# Altium integrated library Linear Technology Power Management Switching Regulator LTC1174-LTC3901.IntLib: 2647 symbols (part 129 of 364)
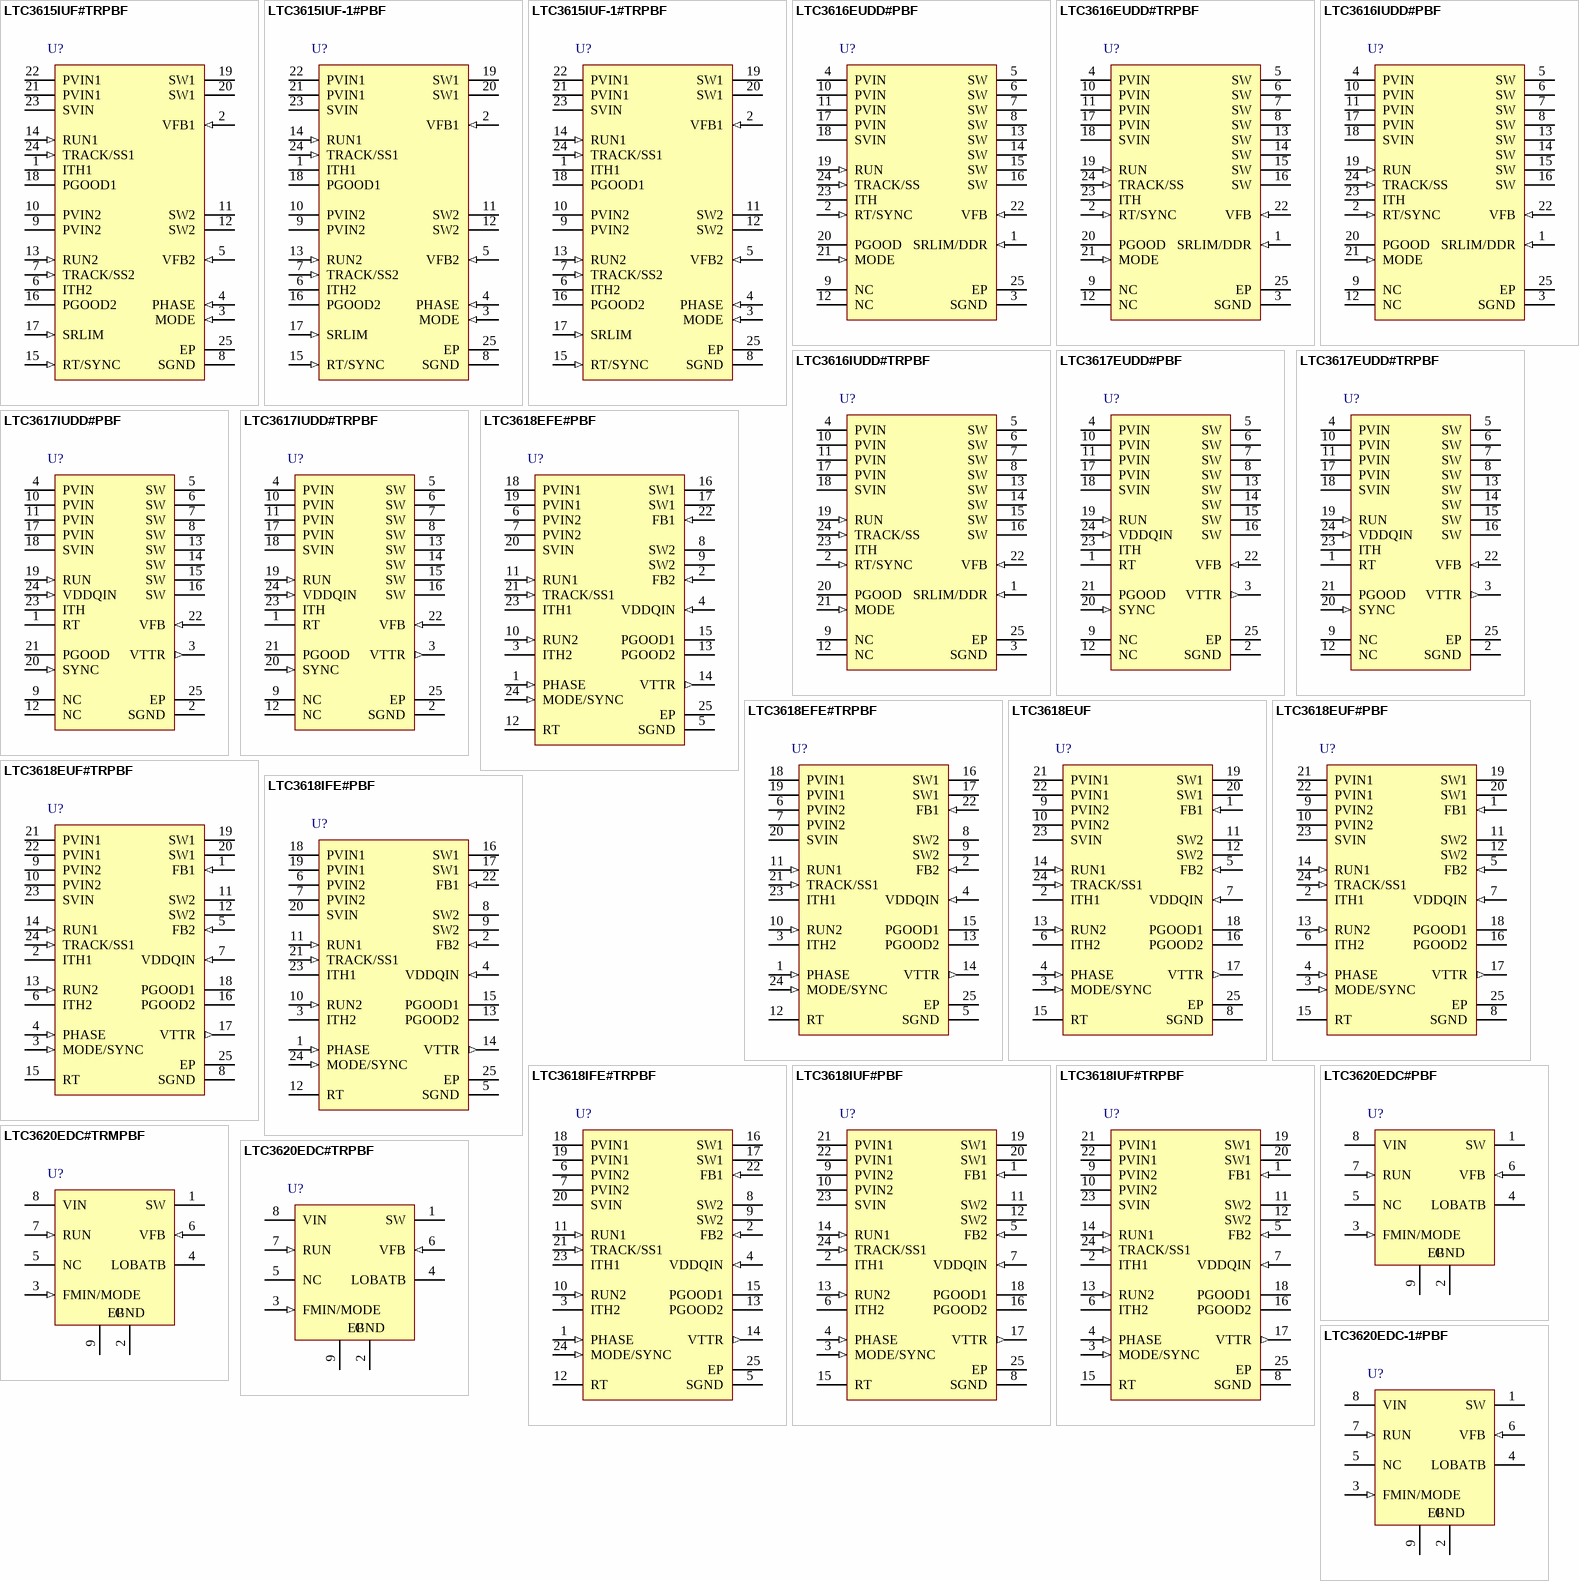
[diagram p181: symbols LTC3615IUF#TRPBF to LTC3620EDC-1#PBF]

## LTC3618EUF#PBF
designator U?
Dual 4 MHz, +/-3 A Synchronous Buck Converter for DDR Termination, 24-pin QFN (UF-24), -40 to 125 degC, Pb-Free; Manufacturer: Linear Technology; PartNumber: LTC3618EUF#PBF; Frequency Adjust Range: Up - 4MHz; Number of Outputs: 3; DatasheetVersion: Rev. B; PackageVersion: Rev. B, 02/2012; PackageReference: UF24; PackageDescription: 24-Pin Plastic QFN, Body 4 x 4 mm, Pitch 0.5 mm; Supplier 1: Digi-Key; Supplier Part Number 1: LTC3618EUF#PBF-ND; Supplier 2: Newark; Supplier Part Number 2: 59T9340; RoHS: TRUE; Mounting Technology: Surface Mount; Code_JEDEC: MO-220; ComponentLink1Description: Manufacturer URL; ComponentLink1URL: http://www.linear.com/; ComponentLink2Description: Datasheet; ComponentLink2URL: http://cds.linear.com/docs/en/datasheet/3618fb.pdf; ComponentLink3Description: Package Specification; ComponentLink3URL: http://cds.linear.com/docs/en/packaging/%28UF24%29%20QFN%2005-08-1697%20Rev%20B.pdf
footprint LT-UF-24_N (QFN, 24-Leads, Body 4.1x4.1mm, Pitch 0.5mm, Thermal Pad 2.45x2.45mm, IPC Medium Density)
footprint LT-UF-24_L (QFN, 24-Leads, Body 4.1x4.1mm, Pitch 0.5mm, Thermal Pad 2.45x2.45mm, IPC High Density)
footprint LT-UF-24_M (QFN, 24-Leads, Body 4.1x4.1mm, Pitch 0.5mm, Thermal Pad 2.45x2.45mm, IPC Low Density)
pins: 1 FB1 (in) "Voltage Feedback Input Pin for VDDQ. Receives the feedback voltage for VDDQ from the external resistive divider across the output.", 2 ITH1 "Error Amplifier Compensation. Connection for external compensation from ITH to SGND. The current comparator’s threshold increases with this control voltage. Tying this pin to SVIN enables internal compensation.", 3 MODE/SYNC (in) "Mode Selection. 1. Tying the MODE pin to SVIN or SGND enables pulseskipping mode or forced continuous mode respectively for VDDQ only. The default operation mode for VTT is forced continuous mode. The input to the MODE/SYNC (See Datasheet)", 4 PHASE (in) "Phase Shift Selection. If pin is tied to SGND, the phase between SW1 and SW2 will be 0degrees. Tying PHASE to SVIN will select 180degrees phase shift. With the PHASE pin tied to half of the SVIN voltage, 90degrees phase (See Datasheet)", 5 FB2 (in) "Voltage Feedback Input Pin for VTT. See VFB1.", 6 ITH2 "Error Amplifier Compensation of VTT. See ITH1.", 7 VDDQIN (in) "External Reference Input. An internal resistor divider to the error amplifier sets the output voltage of VTT. VFB2 will regulate to VDDQIN ?0.5.", 8 SGND (power) "Signal Ground. All small-signal and compensation components should connect to this ground pin which, in turn, should be connected to PGND at one point.", 9 PVIN2 (power) "VTT Power Supply Input. See PVIN1.", 10 PVIN2 (power) "VTT Power Supply Input. See PVIN1.", 11 SW2 (power) "VTT Switch Node. See SW1.", 12 SW2 (power) "VTT Switch Node. See SW1.", 13 RUN2 (in) "Enable Pin for VTT. See RUN1.", 14 RUN1 (in) "Enable Pin for VDDQ. Forcing RUN1 above the input threshold voltage enables the output SW1 of VDDQ. Forcing both RUNx pins to ground shuts down the LTC3618. In shutdown, all functions are disabled and the LTC3618 draws <1uA (See Datasheet)", 15 RT "Oscillator Frequency. This pin provides two modes of setting the switching frequency. 1. Connecting a resistor from RT to ground will set the switching frequency based on the resistor value. 2. Tying this pin to SVIN enables (See Datasheet)", 16 PGOOD2 (oc) "Power Good Output for VTT. See PGOOD1.", 17 VTTR (out) "Voltage Buffer Output. This pin is the output of an internal voltage buffer whose voltage is equal to VDDQIN ?0.5. Output current capability is +/-10mA. Do not exceed 0.1uF capacitance on this pin. This output i(See Datasheet)", 18 PGOOD1 (oc) "Power Good Output Pin for VDDQ. The open-drain output will be pulled down to ground if the FB1 voltage of the channel is not within the power good voltage window. The PGOOD1 will also be pulled down if the channel is not (See Datasheet)", 19 SW1 (power) "VDDQ Switch Node. Connection to the external inductor. This pin connects to the drains of the internal synchronous power MOSFET switches.", 20 SW1 (power) "VDDQ Switch Node. Connection to the external inductor. This pin connects to the drains of the internal synchronous power MOSFET switches.", 21 PVIN1 (power) "VDDQ Power Supply Inputs. These pins connect to the source of the internal power P-channel MOSFET of VDDQ. PVIN1 and PVIN2 are independent of each other. They may connect to equal or lower supplies than SVIN.", 22 PVIN1 (power) "VDDQ Power Supply Inputs. These pins connect to the source of the internal power P-channel MOSFET of VDDQ. PVIN1 and PVIN2 are independent of each other. They may connect to equal or lower supplies than SVIN.", 23 SVIN (power) "Signal Input Supply. This pin powers the internal control circuitry and is monitored by the undervoltage lockout comparator.", 24 TRACK/SS1 (in) "Internal, External Soft-Start, External Reference Input for VDDQ. The type of start-up behavior for VDDQ is programmable with the TRACK/SS1 pin: 1. Internal soft-start with fixed timing can be programmed by tying TRACK/SS1 (See Datasheet)", 25 EP (power) "Power Ground. The exposed pad connects to the sources of the power N-channel MOSFETs. The PGND pin is common for both channels. The exposed pad must be soldered to the PCB for electrical connection and rated thermal (See Datasheet)"

## LTC3618EUF#TRPBF
designator U?
Dual 4 MHz, +/-3 A Synchronous Buck Converter for DDR Termination, 24-pin QFN (UF-24), -40 to 125 degC, Pb-Free, Tape and Reel; Manufacturer: Linear Technology; PartNumber: LTC3618EUF#TRPBF; Frequency Adjust Range: Up - 4MHz; Number of Outputs: 3; DatasheetVersion: Rev. B; PackageVersion: Rev. B, 02/2012; PackageReference: UF24; PackageDescription: 24-Pin Plastic QFN, Body 4 x 4 mm, Pitch 0.5 mm; Supplier 1: Digi-Key; Supplier Part Number 1: LTC3618EUF#TRPBF-ND; Supplier 2: Newark; Supplier Part Number 2: 59T9341; Packing: Tape and Reel; RoHS: TRUE; Mounting Technology: Surface Mount; Code_JEDEC: MO-220; ComponentLink1Description: Manufacturer URL; ComponentLink1URL: http://www.linear.com/; ComponentLink2Description: Datasheet; ComponentLink2URL: http://cds.linear.com/docs/en/datasheet/3618fb.pdf; ComponentLink3Description: Package Specification; ComponentLink3URL: http://cds.linear.com/docs/en/packaging/%28UF24%29%20QFN%2005-08-1697%20Rev%20B.pdf
footprint LT-UF-24_N (QFN, 24-Leads, Body 4.1x4.1mm, Pitch 0.5mm, Thermal Pad 2.45x2.45mm, IPC Medium Density)
footprint LT-UF-24_L (QFN, 24-Leads, Body 4.1x4.1mm, Pitch 0.5mm, Thermal Pad 2.45x2.45mm, IPC High Density)
footprint LT-UF-24_M (QFN, 24-Leads, Body 4.1x4.1mm, Pitch 0.5mm, Thermal Pad 2.45x2.45mm, IPC Low Density)
pins: 1 FB1 (in) "Voltage Feedback Input Pin for VDDQ. Receives the feedback voltage for VDDQ from the external resistive divider across the output.", 2 ITH1 "Error Amplifier Compensation. Connection for external compensation from ITH to SGND. The current comparator’s threshold increases with this control voltage. Tying this pin to SVIN enables internal compensation.", 3 MODE/SYNC (in) "Mode Selection. 1. Tying the MODE pin to SVIN or SGND enables pulseskipping mode or forced continuous mode respectively for VDDQ only. The default operation mode for VTT is forced continuous mode. The input to the MODE/SYNC (See Datasheet)", 4 PHASE (in) "Phase Shift Selection. If pin is tied to SGND, the phase between SW1 and SW2 will be 0degrees. Tying PHASE to SVIN will select 180degrees phase shift. With the PHASE pin tied to half of the SVIN voltage, 90degrees phase (See Datasheet)", 5 FB2 (in) "Voltage Feedback Input Pin for VTT. See VFB1.", 6 ITH2 "Error Amplifier Compensation of VTT. See ITH1.", 7 VDDQIN (in) "External Reference Input. An internal resistor divider to the error amplifier sets the output voltage of VTT. VFB2 will regulate to VDDQIN ?0.5.", 8 SGND (power) "Signal Ground. All small-signal and compensation components should connect to this ground pin which, in turn, should be connected to PGND at one point.", 9 PVIN2 (power) "VTT Power Supply Input. See PVIN1.", 10 PVIN2 (power) "VTT Power Supply Input. See PVIN1.", 11 SW2 (power) "VTT Switch Node. See SW1.", 12 SW2 (power) "VTT Switch Node. See SW1.", 13 RUN2 (in) "Enable Pin for VTT. See RUN1.", 14 RUN1 (in) "Enable Pin for VDDQ. Forcing RUN1 above the input threshold voltage enables the output SW1 of VDDQ. Forcing both RUNx pins to ground shuts down the LTC3618. In shutdown, all functions are disabled and the LTC3618 draws <1uA (See Datasheet)", 15 RT "Oscillator Frequency. This pin provides two modes of setting the switching frequency. 1. Connecting a resistor from RT to ground will set the switching frequency based on the resistor value. 2. Tying this pin to SVIN enables (See Datasheet)", 16 PGOOD2 (oc) "Power Good Output for VTT. See PGOOD1.", 17 VTTR (out) "Voltage Buffer Output. This pin is the output of an internal voltage buffer whose voltage is equal to VDDQIN ?0.5. Output current capability is +/-10mA. Do not exceed 0.1uF capacitance on this pin. This output i(See Datasheet)", 18 PGOOD1 (oc) "Power Good Output Pin for VDDQ. The open-drain output will be pulled down to ground if the FB1 voltage of the channel is not within the power good voltage window. The PGOOD1 will also be pulled down if the channel is not (See Datasheet)", 19 SW1 (power) "VDDQ Switch Node. Connection to the external inductor. This pin connects to the drains of the internal synchronous power MOSFET switches.", 20 SW1 (power) "VDDQ Switch Node. Connection to the external inductor. This pin connects to the drains of the internal synchronous power MOSFET switches.", 21 PVIN1 (power) "VDDQ Power Supply Inputs. These pins connect to the source of the internal power P-channel MOSFET of VDDQ. PVIN1 and PVIN2 are independent of each other. They may connect to equal or lower supplies than SVIN.", 22 PVIN1 (power) "VDDQ Power Supply Inputs. These pins connect to the source of the internal power P-channel MOSFET of VDDQ. PVIN1 and PVIN2 are independent of each other. They may connect to equal or lower supplies than SVIN.", 23 SVIN (power) "Signal Input Supply. This pin powers the internal control circuitry and is monitored by the undervoltage lockout comparator.", 24 TRACK/SS1 (in) "Internal, External Soft-Start, External Reference Input for VDDQ. The type of start-up behavior for VDDQ is programmable with the TRACK/SS1 pin: 1. Internal soft-start with fixed timing can be programmed by tying TRACK/SS1 (See Datasheet)", 25 EP (power) "Power Ground. The exposed pad connects to the sources of the power N-channel MOSFETs. The PGND pin is common for both channels. The exposed pad must be soldered to the PCB for electrical connection and rated thermal (See Datasheet)"

## LTC3618IFE#PBF
designator U?
Dual 4 MHz, +/-3 A Synchronous Buck Converter for DDR Termination, 24-pin SOP (FE-24-EPV-AA), -40 to 125 degC, Pb-Free; Manufacturer: Linear Technology; PartNumber: LTC3618IFE#PBF; Frequency Adjust Range: Up - 4MHz; Number of Outputs: 3; DatasheetVersion: Rev. B; PackageVersion: Rev. B, 09/2010; PackageReference: FE-24; PackageDescription: 24-Pin Plastic TSSOP, Body 7.8 x 4.4 mm, Pitch 0.65 mm; Supplier 1: Digi-Key; Supplier Part Number 1: LTC3618IFE#PBF-ND; Supplier 2: Newark; Supplier Part Number 2: 59T9342; RoHS: TRUE; Mounting Technology: Surface Mount; ComponentLink1Description: Manufacturer URL; ComponentLink1URL: http://www.linear.com/; ComponentLink2Description: Datasheet; ComponentLink2URL: http://cds.linear.com/docs/en/datasheet/3618fb.pdf; ComponentLink3Description: Package Specification; ComponentLink3URL: http://cds.linear.com/docs/en/packaging/TSSOP_24_05-08-1771.pdf
footprint LT-FE-24-EPV-AA_N (SOP, 24-Leads, Body 7.9x4.5mm, Pitch 0.65mm, Thermal Pad 2.74x3.25mm, IPC Medium Density)
footprint LT-FE-24-EPV-AA_L (SOP, 24-Leads, Body 7.9x4.5mm, Pitch 0.65mm, Thermal Pad 2.74x3.25mm, IPC High Density)
footprint LT-FE-24-EPV-AA_M (SOP, 24-Leads, Body 7.9x4.5mm, Pitch 0.65mm, Thermal Pad 2.74x3.25mm, IPC Low Density)
pins: 1 PHASE (in) "Phase Shift Selection. If pin is tied to SGND, the phase between SW1 and SW2 will be 0degrees. Tying PHASE to SVIN will select 180degrees phase shift. With the PHASE pin tied to half of the SVIN voltage, 90degrees phase (See Datasheet)", 2 FB2 (in) "Voltage Feedback Input Pin for VTT. See VFB1.", 3 ITH2 "Error Amplifier Compensation of VTT. See ITH1.", 4 VDDQIN (in) "External Reference Input. An internal resistor divider to the error amplifier sets the output voltage of VTT. VFB2 will regulate to VDDQIN ?0.5.", 5 SGND (power) "Signal Ground. All small-signal and compensation components should connect to this ground pin which, in turn, should be connected to PGND at one point.", 6 PVIN2 (power) "VTT Power Supply Input. See PVIN1.", 7 PVIN2 (power) "VTT Power Supply Input. See PVIN1.", 8 SW2 (power) "VTT Switch Node. See SW1.", 9 SW2 (power) "VTT Switch Node. See SW1.", 10 RUN2 (in) "Enable Pin for VTT. See RUN1.", 11 RUN1 (in) "Enable Pin for VDDQ. Forcing RUN1 above the input threshold voltage enables the output SW1 of VDDQ. Forcing both RUNx pins to ground shuts down the LTC3618. In shutdown, all functions are disabled and the LTC3618 draws <1uA (See Datasheet)", 12 RT "Oscillator Frequency. This pin provides two modes of setting the switching frequency. 1. Connecting a resistor from RT to ground will set the switching frequency based on the resistor value. 2. Tying this pin to SVIN enables (See Datasheet)", 13 PGOOD2 (oc) "Power Good Output for VTT. See PGOOD1.", 14 VTTR (out) "Voltage Buffer Output. This pin is the output of an internal voltage buffer whose voltage is equal to VDDQIN ?0.5. Output current capability is +/-10mA. Do not exceed 0.1uF capacitance on this pin. This output i(See Datasheet)", 15 PGOOD1 (oc) "Power Good Output Pin for VDDQ. The open-drain output will be pulled down to ground if the FB1 voltage of the channel is not within the power good voltage window. The PGOOD1 will also be pulled down if the channel is not (See Datasheet)", 16 SW1 (power) "VDDQ Switch Node. Connection to the external inductor. This pin connects to the drains of the internal synchronous power MOSFET switches.", 17 SW1 (power) "VDDQ Switch Node. Connection to the external inductor. This pin connects to the drains of the internal synchronous power MOSFET switches.", 18 PVIN1 (power) "VDDQ Power Supply Inputs. These pins connect to the source of the internal power P-channel MOSFET of VDDQ. PVIN1 and PVIN2 are independent of each other. They may connect to equal or lower supplies than SVIN.", 19 PVIN1 (power) "VDDQ Power Supply Inputs. These pins connect to the source of the internal power P-channel MOSFET of VDDQ. PVIN1 and PVIN2 are independent of each other. They may connect to equal or lower supplies than SVIN.", 20 SVIN (power) "Signal Input Supply. This pin powers the internal control circuitry and is monitored by the undervoltage lockout comparator.", 21 TRACK/SS1 (in) "Internal, External Soft-Start, External Reference Input for VDDQ. The type of start-up behavior for VDDQ is programmable with the TRACK/SS1 pin: 1. Internal soft-start with fixed timing can be programmed by tying TRACK/SS1 (See Datasheet)", 22 FB1 (in) "Voltage Feedback Input Pin for VDDQ. Receives the feedback voltage for VDDQ from the external resistive divider across the output.", 23 ITH1 "Error Amplifier Compensation. Connection for external compensation from ITH to SGND. The current comparator’s threshold increases with this control voltage. Tying this pin to SVIN enables internal compensation.", 24 MODE/SYNC (in) "Mode Selection. 1. Tying the MODE pin to SVIN or SGND enables pulseskipping mode or forced continuous mode respectively for VDDQ only. The default operation mode for VTT is forced continuous mode. The input to the MODE/SYNC (See Datasheet)", 25 EP (power) "Power Ground. The exposed pad connects to the sources of the power N-channel MOSFETs. The PGND pin is common for both channels. The exposed pad must be soldered to the PCB for electrical connection and rated thermal (See Datasheet)"

## LTC3618IFE#TRPBF
designator U?
Dual 4 MHz, +/-3 A Synchronous Buck Converter for DDR Termination, 24-pin SOP (FE-24-EPV-AA), -40 to 125 degC, Pb-Free, Tape and Reel; Manufacturer: Linear Technology; PartNumber: LTC3618IFE#TRPBF; Frequency Adjust Range: Up - 4MHz; Number of Outputs: 3; DatasheetVersion: Rev. B; PackageVersion: Rev. B, 09/2010; PackageReference: FE-24; PackageDescription: 24-Pin Plastic TSSOP, Body 7.8 x 4.4 mm, Pitch 0.65 mm; Supplier 1: Digi-Key; Supplier Part Number 1: LTC3618IFE#TRPBF-ND; Packing: Tape and Reel; RoHS: TRUE; Mounting Technology: Surface Mount; ComponentLink1Description: Manufacturer URL; ComponentLink1URL: http://www.linear.com/; ComponentLink2Description: Datasheet; ComponentLink2URL: http://cds.linear.com/docs/en/datasheet/3618fb.pdf; ComponentLink3Description: Package Specification; ComponentLink3URL: http://cds.linear.com/docs/en/packaging/TSSOP_24_05-08-1771.pdf
footprint LT-FE-24-EPV-AA_N (SOP, 24-Leads, Body 7.9x4.5mm, Pitch 0.65mm, Thermal Pad 2.74x3.25mm, IPC Medium Density)
footprint LT-FE-24-EPV-AA_L (SOP, 24-Leads, Body 7.9x4.5mm, Pitch 0.65mm, Thermal Pad 2.74x3.25mm, IPC High Density)
footprint LT-FE-24-EPV-AA_M (SOP, 24-Leads, Body 7.9x4.5mm, Pitch 0.65mm, Thermal Pad 2.74x3.25mm, IPC Low Density)
pins: 1 PHASE (in) "Phase Shift Selection. If pin is tied to SGND, the phase between SW1 and SW2 will be 0degrees. Tying PHASE to SVIN will select 180degrees phase shift. With the PHASE pin tied to half of the SVIN voltage, 90degrees phase (See Datasheet)", 2 FB2 (in) "Voltage Feedback Input Pin for VTT. See VFB1.", 3 ITH2 "Error Amplifier Compensation of VTT. See ITH1.", 4 VDDQIN (in) "External Reference Input. An internal resistor divider to the error amplifier sets the output voltage of VTT. VFB2 will regulate to VDDQIN ?0.5.", 5 SGND (power) "Signal Ground. All small-signal and compensation components should connect to this ground pin which, in turn, should be connected to PGND at one point.", 6 PVIN2 (power) "VTT Power Supply Input. See PVIN1.", 7 PVIN2 (power) "VTT Power Supply Input. See PVIN1.", 8 SW2 (power) "VTT Switch Node. See SW1.", 9 SW2 (power) "VTT Switch Node. See SW1.", 10 RUN2 (in) "Enable Pin for VTT. See RUN1.", 11 RUN1 (in) "Enable Pin for VDDQ. Forcing RUN1 above the input threshold voltage enables the output SW1 of VDDQ. Forcing both RUNx pins to ground shuts down the LTC3618. In shutdown, all functions are disabled and the LTC3618 draws <1uA (See Datasheet)", 12 RT "Oscillator Frequency. This pin provides two modes of setting the switching frequency. 1. Connecting a resistor from RT to ground will set the switching frequency based on the resistor value. 2. Tying this pin to SVIN enables (See Datasheet)", 13 PGOOD2 (oc) "Power Good Output for VTT. See PGOOD1.", 14 VTTR (out) "Voltage Buffer Output. This pin is the output of an internal voltage buffer whose voltage is equal to VDDQIN ?0.5. Output current capability is +/-10mA. Do not exceed 0.1uF capacitance on this pin. This output i(See Datasheet)", 15 PGOOD1 (oc) "Power Good Output Pin for VDDQ. The open-drain output will be pulled down to ground if the FB1 voltage of the channel is not within the power good voltage window. The PGOOD1 will also be pulled down if the channel is not (See Datasheet)", 16 SW1 (power) "VDDQ Switch Node. Connection to the external inductor. This pin connects to the drains of the internal synchronous power MOSFET switches.", 17 SW1 (power) "VDDQ Switch Node. Connection to the external inductor. This pin connects to the drains of the internal synchronous power MOSFET switches.", 18 PVIN1 (power) "VDDQ Power Supply Inputs. These pins connect to the source of the internal power P-channel MOSFET of VDDQ. PVIN1 and PVIN2 are independent of each other. They may connect to equal or lower supplies than SVIN.", 19 PVIN1 (power) "VDDQ Power Supply Inputs. These pins connect to the source of the internal power P-channel MOSFET of VDDQ. PVIN1 and PVIN2 are independent of each other. They may connect to equal or lower supplies than SVIN.", 20 SVIN (power) "Signal Input Supply. This pin powers the internal control circuitry and is monitored by the undervoltage lockout comparator.", 21 TRACK/SS1 (in) "Internal, External Soft-Start, External Reference Input for VDDQ. The type of start-up behavior for VDDQ is programmable with the TRACK/SS1 pin: 1. Internal soft-start with fixed timing can be programmed by tying TRACK/SS1 (See Datasheet)", 22 FB1 (in) "Voltage Feedback Input Pin for VDDQ. Receives the feedback voltage for VDDQ from the external resistive divider across the output.", 23 ITH1 "Error Amplifier Compensation. Connection for external compensation from ITH to SGND. The current comparator’s threshold increases with this control voltage. Tying this pin to SVIN enables internal compensation.", 24 MODE/SYNC (in) "Mode Selection. 1. Tying the MODE pin to SVIN or SGND enables pulseskipping mode or forced continuous mode respectively for VDDQ only. The default operation mode for VTT is forced continuous mode. The input to the MODE/SYNC (See Datasheet)", 25 EP (power) "Power Ground. The exposed pad connects to the sources of the power N-channel MOSFETs. The PGND pin is common for both channels. The exposed pad must be soldered to the PCB for electrical connection and rated thermal (See Datasheet)"

## LTC3618IUF#PBF
designator U?
Dual 4 MHz, +/-3 A Synchronous Buck Converter for DDR Termination, 24-pin QFN (UF-24), -40 to 125 degC, Pb-Free; Manufacturer: Linear Technology; PartNumber: LTC3618IUF#PBF; Frequency Adjust Range: Up - 4MHz; Number of Outputs: 3; DatasheetVersion: Rev. B; PackageVersion: Rev. B, 02/2012; PackageReference: UF24; PackageDescription: 24-Pin Plastic QFN, Body 4 x 4 mm, Pitch 0.5 mm; Supplier 1: Digi-Key; Supplier Part Number 1: LTC3618IUF#PBF-ND; Supplier 2: Newark; Supplier Part Number 2: 59T9344; RoHS: TRUE; Mounting Technology: Surface Mount; Code_JEDEC: MO-220; ComponentLink1Description: Manufacturer URL; ComponentLink1URL: http://www.linear.com/; ComponentLink2Description: Datasheet; ComponentLink2URL: http://cds.linear.com/docs/en/datasheet/3618fb.pdf; ComponentLink3Description: Package Specification; ComponentLink3URL: http://cds.linear.com/docs/en/packaging/%28UF24%29%20QFN%2005-08-1697%20Rev%20B.pdf
footprint LT-UF-24_N (QFN, 24-Leads, Body 4.1x4.1mm, Pitch 0.5mm, Thermal Pad 2.45x2.45mm, IPC Medium Density)
footprint LT-UF-24_L (QFN, 24-Leads, Body 4.1x4.1mm, Pitch 0.5mm, Thermal Pad 2.45x2.45mm, IPC High Density)
footprint LT-UF-24_M (QFN, 24-Leads, Body 4.1x4.1mm, Pitch 0.5mm, Thermal Pad 2.45x2.45mm, IPC Low Density)
pins: 1 FB1 (in) "Voltage Feedback Input Pin for VDDQ. Receives the feedback voltage for VDDQ from the external resistive divider across the output.", 2 ITH1 "Error Amplifier Compensation. Connection for external compensation from ITH to SGND. The current comparator’s threshold increases with this control voltage. Tying this pin to SVIN enables internal compensation.", 3 MODE/SYNC (in) "Mode Selection. 1. Tying the MODE pin to SVIN or SGND enables pulseskipping mode or forced continuous mode respectively for VDDQ only. The default operation mode for VTT is forced continuous mode. The input to the MODE/SYNC (See Datasheet)", 4 PHASE (in) "Phase Shift Selection. If pin is tied to SGND, the phase between SW1 and SW2 will be 0degrees. Tying PHASE to SVIN will select 180degrees phase shift. With the PHASE pin tied to half of the SVIN voltage, 90degrees phase (See Datasheet)", 5 FB2 (in) "Voltage Feedback Input Pin for VTT. See VFB1.", 6 ITH2 "Error Amplifier Compensation of VTT. See ITH1.", 7 VDDQIN (in) "External Reference Input. An internal resistor divider to the error amplifier sets the output voltage of VTT. VFB2 will regulate to VDDQIN ?0.5.", 8 SGND (power) "Signal Ground. All small-signal and compensation components should connect to this ground pin which, in turn, should be connected to PGND at one point.", 9 PVIN2 (power) "VTT Power Supply Input. See PVIN1.", 10 PVIN2 (power) "VTT Power Supply Input. See PVIN1.", 11 SW2 (power) "VTT Switch Node. See SW1.", 12 SW2 (power) "VTT Switch Node. See SW1.", 13 RUN2 (in) "Enable Pin for VTT. See RUN1.", 14 RUN1 (in) "Enable Pin for VDDQ. Forcing RUN1 above the input threshold voltage enables the output SW1 of VDDQ. Forcing both RUNx pins to ground shuts down the LTC3618. In shutdown, all functions are disabled and the LTC3618 draws <1uA (See Datasheet)", 15 RT "Oscillator Frequency. This pin provides two modes of setting the switching frequency. 1. Connecting a resistor from RT to ground will set the switching frequency based on the resistor value. 2. Tying this pin to SVIN enables (See Datasheet)", 16 PGOOD2 (oc) "Power Good Output for VTT. See PGOOD1.", 17 VTTR (out) "Voltage Buffer Output. This pin is the output of an internal voltage buffer whose voltage is equal to VDDQIN ?0.5. Output current capability is +/-10mA. Do not exceed 0.1uF capacitance on this pin. This output i(See Datasheet)", 18 PGOOD1 (oc) "Power Good Output Pin for VDDQ. The open-drain output will be pulled down to ground if the FB1 voltage of the channel is not within the power good voltage window. The PGOOD1 will also be pulled down if the channel is not (See Datasheet)", 19 SW1 (power) "VDDQ Switch Node. Connection to the external inductor. This pin connects to the drains of the internal synchronous power MOSFET switches.", 20 SW1 (power) "VDDQ Switch Node. Connection to the external inductor. This pin connects to the drains of the internal synchronous power MOSFET switches.", 21 PVIN1 (power) "VDDQ Power Supply Inputs. These pins connect to the source of the internal power P-channel MOSFET of VDDQ. PVIN1 and PVIN2 are independent of each other. They may connect to equal or lower supplies than SVIN.", 22 PVIN1 (power) "VDDQ Power Supply Inputs. These pins connect to the source of the internal power P-channel MOSFET of VDDQ. PVIN1 and PVIN2 are independent of each other. They may connect to equal or lower supplies than SVIN.", 23 SVIN (power) "Signal Input Supply. This pin powers the internal control circuitry and is monitored by the undervoltage lockout comparator.", 24 TRACK/SS1 (in) "Internal, External Soft-Start, External Reference Input for VDDQ. The type of start-up behavior for VDDQ is programmable with the TRACK/SS1 pin: 1. Internal soft-start with fixed timing can be programmed by tying TRACK/SS1 (See Datasheet)", 25 EP (power) "Power Ground. The exposed pad connects to the sources of the power N-channel MOSFETs. The PGND pin is common for both channels. The exposed pad must be soldered to the PCB for electrical connection and rated thermal (See Datasheet)"

## LTC3618IUF#TRPBF
designator U?
Dual 4 MHz, +/-3 A Synchronous Buck Converter for DDR Termination, 24-pin QFN (UF-24), -40 to 125 degC, Pb-Free, Tape and Reel; Manufacturer: Linear Technology; PartNumber: LTC3618IUF#TRPBF; Frequency Adjust Range: Up - 4MHz; Number of Outputs: 3; DatasheetVersion: Rev. B; PackageVersion: Rev. B, 02/2012; PackageReference: UF24; PackageDescription: 24-Pin Plastic QFN, Body 4 x 4 mm, Pitch 0.5 mm; Supplier 1: Digi-Key; Supplier Part Number 1: LTC3618IUF#TRPBF-ND; Supplier 2: Newark; Supplier Part Number 2: 59T9345; Packing: Tape and Reel; RoHS: TRUE; Mounting Technology: Surface Mount; Code_JEDEC: MO-220; ComponentLink1Description: Manufacturer URL; ComponentLink1URL: http://www.linear.com/; ComponentLink2Description: Datasheet; ComponentLink2URL: http://cds.linear.com/docs/en/datasheet/3618fb.pdf; ComponentLink3Description: Package Specification; ComponentLink3URL: http://cds.linear.com/docs/en/packaging/%28UF24%29%20QFN%2005-08-1697%20Rev%20B.pdf
footprint LT-UF-24_N (QFN, 24-Leads, Body 4.1x4.1mm, Pitch 0.5mm, Thermal Pad 2.45x2.45mm, IPC Medium Density)
footprint LT-UF-24_L (QFN, 24-Leads, Body 4.1x4.1mm, Pitch 0.5mm, Thermal Pad 2.45x2.45mm, IPC High Density)
footprint LT-UF-24_M (QFN, 24-Leads, Body 4.1x4.1mm, Pitch 0.5mm, Thermal Pad 2.45x2.45mm, IPC Low Density)
pins: 1 FB1 (in) "Voltage Feedback Input Pin for VDDQ. Receives the feedback voltage for VDDQ from the external resistive divider across the output.", 2 ITH1 "Error Amplifier Compensation. Connection for external compensation from ITH to SGND. The current comparator’s threshold increases with this control voltage. Tying this pin to SVIN enables internal compensation.", 3 MODE/SYNC (in) "Mode Selection. 1. Tying the MODE pin to SVIN or SGND enables pulseskipping mode or forced continuous mode respectively for VDDQ only. The default operation mode for VTT is forced continuous mode. The input to the MODE/SYNC (See Datasheet)", 4 PHASE (in) "Phase Shift Selection. If pin is tied to SGND, the phase between SW1 and SW2 will be 0degrees. Tying PHASE to SVIN will select 180degrees phase shift. With the PHASE pin tied to half of the SVIN voltage, 90degrees phase (See Datasheet)", 5 FB2 (in) "Voltage Feedback Input Pin for VTT. See VFB1.", 6 ITH2 "Error Amplifier Compensation of VTT. See ITH1.", 7 VDDQIN (in) "External Reference Input. An internal resistor divider to the error amplifier sets the output voltage of VTT. VFB2 will regulate to VDDQIN ?0.5.", 8 SGND (power) "Signal Ground. All small-signal and compensation components should connect to this ground pin which, in turn, should be connected to PGND at one point.", 9 PVIN2 (power) "VTT Power Supply Input. See PVIN1.", 10 PVIN2 (power) "VTT Power Supply Input. See PVIN1.", 11 SW2 (power) "VTT Switch Node. See SW1.", 12 SW2 (power) "VTT Switch Node. See SW1.", 13 RUN2 (in) "Enable Pin for VTT. See RUN1.", 14 RUN1 (in) "Enable Pin for VDDQ. Forcing RUN1 above the input threshold voltage enables the output SW1 of VDDQ. Forcing both RUNx pins to ground shuts down the LTC3618. In shutdown, all functions are disabled and the LTC3618 draws <1uA (See Datasheet)", 15 RT "Oscillator Frequency. This pin provides two modes of setting the switching frequency. 1. Connecting a resistor from RT to ground will set the switching frequency based on the resistor value. 2. Tying this pin to SVIN enables (See Datasheet)", 16 PGOOD2 (oc) "Power Good Output for VTT. See PGOOD1.", 17 VTTR (out) "Voltage Buffer Output. This pin is the output of an internal voltage buffer whose voltage is equal to VDDQIN ?0.5. Output current capability is +/-10mA. Do not exceed 0.1uF capacitance on this pin. This output i(See Datasheet)", 18 PGOOD1 (oc) "Power Good Output Pin for VDDQ. The open-drain output will be pulled down to ground if the FB1 voltage of the channel is not within the power good voltage window. The PGOOD1 will also be pulled down if the channel is not (See Datasheet)", 19 SW1 (power) "VDDQ Switch Node. Connection to the external inductor. This pin connects to the drains of the internal synchronous power MOSFET switches.", 20 SW1 (power) "VDDQ Switch Node. Connection to the external inductor. This pin connects to the drains of the internal synchronous power MOSFET switches.", 21 PVIN1 (power) "VDDQ Power Supply Inputs. These pins connect to the source of the internal power P-channel MOSFET of VDDQ. PVIN1 and PVIN2 are independent of each other. They may connect to equal or lower supplies than SVIN.", 22 PVIN1 (power) "VDDQ Power Supply Inputs. These pins connect to the source of the internal power P-channel MOSFET of VDDQ. PVIN1 and PVIN2 are independent of each other. They may connect to equal or lower supplies than SVIN.", 23 SVIN (power) "Signal Input Supply. This pin powers the internal control circuitry and is monitored by the undervoltage lockout comparator.", 24 TRACK/SS1 (in) "Internal, External Soft-Start, External Reference Input for VDDQ. The type of start-up behavior for VDDQ is programmable with the TRACK/SS1 pin: 1. Internal soft-start with fixed timing can be programmed by tying TRACK/SS1 (See Datasheet)", 25 EP (power) "Power Ground. The exposed pad connects to the sources of the power N-channel MOSFETs. The PGND pin is common for both channels. The exposed pad must be soldered to the PCB for electrical connection and rated thermal (See Datasheet)"

## LTC3620EDC#PBF
designator U?
Ultralow Power 15 mA Synchronous Step-Down Switching Regulator, 8-pin SON (DC8-8), -40 to 85 degC, Pb-Free; Manufacturer: Linear Technology; PartNumber: LTC3620EDC#PBF; Number of Outputs: 1; DatasheetVersion: Rev. A; PackageVersion: Rev. A, 04/2009; PackageReference: DC8; PackageDescription: 8-Pin Plastic DFN, Body 2 x 2 mm, Pitch 0.45 mm; Supplier 1: Newark; Supplier Part Number 1: 78T3235; RoHS: TRUE; Mounting Technology: Surface Mount; ComponentLink1Description: Manufacturer URL; ComponentLink1URL: http://www.linear.com/; ComponentLink2Description: Datasheet; ComponentLink2URL: http://cds.linear.com/docs/en/datasheet/3620fa.pdf; ComponentLink3Description: Package Specification; ComponentLink3URL: http://cds.linear.com/docs/en/packaging/DFN_8_05-08-1719.pdf
footprint LT-DC8_V (SON, 8-Leads, Body 2x2mm, Pitch 0.45mm, Thermal Pad 1.37x0.64mm, Recommended)
pins: 1 SW (power) "Switch Node Connection to Inductor. This pin connects to the internal power MOSFET Switches.", 2 GND (power) "Ground Connection for Internal Circuitry and Power Path Return. Tie directly to local ground plane.", 3 FMIN/MODE (in) "Frequency Clamp Select Input. Driving this pin with a 20kHz to 300kHz external clock sets the minimum switching frequency. Pulling this pin low sets the minimum switching frequency to the internally set 50kHz. Pulling this (See Datasheet)", 4 LOBATB (oc) "Low-Battery Status Output. This open drain output pulls low when VIN falls below 3V.", 5 NC "No Connect.", 6 VFB (in) "Regulator Feedback Pin. This pin receives the feedback voltage from the resistive divider across the output. For the LTC3620-1, this pin must be connected directly to VOUT . VOUT is internally divided from VOUT to the (See Datasheet)", 7 RUN (in) "Regulator Enable Pin. Apply a voltage greater than 0.8V to enable the regulator. Do not float this pin.", 8 VIN (power) "Input Supply Pin. Must be locally bypassed.", 9 EP (power) "Ground. Must be soldered to PCB."

## LTC3620EDC#TRMPBF
designator U?
Ultralow Power 15 mA Synchronous Step-Down Switching Regulator, 8-pin SON (DC8-8), -40 to 85 degC, Pb-Free, Mini Tape and Reel; Manufacturer: Linear Technology; PartNumber: LTC3620EDC#TRMPBF; Number of Outputs: 1; DatasheetVersion: Rev. A; PackageVersion: Rev. A, 04/2009; PackageReference: DC8; PackageDescription: 8-Pin Plastic DFN, Body 2 x 2 mm, Pitch 0.45 mm; Supplier 1: Digi-Key; Supplier Part Number 1: LTC3620EDC#TRMPBFTR-ND; Supplier 2: Digi-Key; Supplier Part Number 2: LTC3620EDC#TRMPBFCT-ND; Supplier 3: Digi-Key; Supplier Part Number 3: LTC3620EDC#TRMPBFDKR-ND; Packing: Mini Tape and Reel; RoHS: TRUE; Mounting Technology: Surface Mount; ComponentLink1Description: Manufacturer URL; ComponentLink1URL: http://www.linear.com/; ComponentLink2Description: Datasheet; ComponentLink2URL: http://cds.linear.com/docs/en/datasheet/3620fa.pdf; ComponentLink3Description: Package Specification; ComponentLink3URL: http://cds.linear.com/docs/en/packaging/DFN_8_05-08-1719.pdf
footprint LT-DC8_V (SON, 8-Leads, Body 2x2mm, Pitch 0.45mm, Thermal Pad 1.37x0.64mm, Recommended)
pins: 1 SW (power) "Switch Node Connection to Inductor. This pin connects to the internal power MOSFET Switches.", 2 GND (power) "Ground Connection for Internal Circuitry and Power Path Return. Tie directly to local ground plane.", 3 FMIN/MODE (in) "Frequency Clamp Select Input. Driving this pin with a 20kHz to 300kHz external clock sets the minimum switching frequency. Pulling this pin low sets the minimum switching frequency to the internally set 50kHz. Pulling this (See Datasheet)", 4 LOBATB (oc) "Low-Battery Status Output. This open drain output pulls low when VIN falls below 3V.", 5 NC "No Connect.", 6 VFB (in) "Regulator Feedback Pin. This pin receives the feedback voltage from the resistive divider across the output. For the LTC3620-1, this pin must be connected directly to VOUT . VOUT is internally divided from VOUT to the (See Datasheet)", 7 RUN (in) "Regulator Enable Pin. Apply a voltage greater than 0.8V to enable the regulator. Do not float this pin.", 8 VIN (power) "Input Supply Pin. Must be locally bypassed.", 9 EP (power) "Ground. Must be soldered to PCB."

## LTC3620EDC#TRPBF
designator U?
Ultralow Power 15 mA Synchronous Step-Down Switching Regulator, 8-pin SON (DC8-8), -40 to 85 degC, Pb-Free, Tape and Reel; Manufacturer: Linear Technology; PartNumber: LTC3620EDC#TRPBF; Number of Outputs: 1; DatasheetVersion: Rev. A; PackageVersion: Rev. A, 04/2009; PackageReference: DC8; PackageDescription: 8-Pin Plastic DFN, Body 2 x 2 mm, Pitch 0.45 mm; Supplier 1: Digi-Key; Supplier Part Number 1: LTC3620EDC#TRPBF-ND; Packing: Tape and Reel; RoHS: TRUE; Mounting Technology: Surface Mount; ComponentLink1Description: Manufacturer URL; ComponentLink1URL: http://www.linear.com/; ComponentLink2Description: Datasheet; ComponentLink2URL: http://cds.linear.com/docs/en/datasheet/3620fa.pdf; ComponentLink3Description: Package Specification; ComponentLink3URL: http://cds.linear.com/docs/en/packaging/DFN_8_05-08-1719.pdf
footprint LT-DC8_V (SON, 8-Leads, Body 2x2mm, Pitch 0.45mm, Thermal Pad 1.37x0.64mm, Recommended)
pins: 1 SW (power) "Switch Node Connection to Inductor. This pin connects to the internal power MOSFET Switches.", 2 GND (power) "Ground Connection for Internal Circuitry and Power Path Return. Tie directly to local ground plane.", 3 FMIN/MODE (in) "Frequency Clamp Select Input. Driving this pin with a 20kHz to 300kHz external clock sets the minimum switching frequency. Pulling this pin low sets the minimum switching frequency to the internally set 50kHz. Pulling this (See Datasheet)", 4 LOBATB (oc) "Low-Battery Status Output. This open drain output pulls low when VIN falls below 3V.", 5 NC "No Connect.", 6 VFB (in) "Regulator Feedback Pin. This pin receives the feedback voltage from the resistive divider across the output. For the LTC3620-1, this pin must be connected directly to VOUT . VOUT is internally divided from VOUT to the (See Datasheet)", 7 RUN (in) "Regulator Enable Pin. Apply a voltage greater than 0.8V to enable the regulator. Do not float this pin.", 8 VIN (power) "Input Supply Pin. Must be locally bypassed.", 9 EP (power) "Ground. Must be soldered to PCB."

## LTC3620EDC-1#PBF
designator U?
Ultralow Power 15 mA Synchronous Step-Down Switching Regulator, 8-pin SON (DC8-8), -40 to 85 degC, Pb-Free; Manufacturer: Linear Technology; PartNumber: LTC3620EDC-1#PBF; Number of Outputs: 1; DatasheetVersion: Rev. A; PackageVersion: Rev. A, 04/2009; PackageReference: DC8; PackageDescription: 8-Pin Plastic DFN, Body 2 x 2 mm, Pitch 0.45 mm; Supplier 1: Newark; Supplier Part Number 1: 78T3234; RoHS: TRUE; Mounting Technology: Surface Mount; ComponentLink1Description: Manufacturer URL; ComponentLink1URL: http://www.linear.com/; ComponentLink2Description: Datasheet; ComponentLink2URL: http://cds.linear.com/docs/en/datasheet/3620fa.pdf; ComponentLink3Description: Package Specification; ComponentLink3URL: http://cds.linear.com/docs/en/packaging/DFN_8_05-08-1719.pdf
footprint LT-DC8_V (SON, 8-Leads, Body 2x2mm, Pitch 0.45mm, Thermal Pad 1.37x0.64mm, Recommended)
pins: 1 SW (power) "Switch Node Connection to Inductor. This pin connects to the internal power MOSFET Switches.", 2 GND (power) "Ground Connection for Internal Circuitry and Power Path Return. Tie directly to local ground plane.", 3 FMIN/MODE (in) "Frequency Clamp Select Input. Driving this pin with a 20kHz to 300kHz external clock sets the minimum switching frequency. Pulling this pin low sets the minimum switching frequency to the internally set 50kHz. Pulling this (See Datasheet)", 4 LOBATB (oc) "Low-Battery Status Output. This open drain output pulls low when VIN falls below 3V.", 5 NC "No Connect.", 6 VFB (in) "Regulator Feedback Pin. This pin receives the feedback voltage from the resistive divider across the output. For the LTC3620-1, this pin must be connected directly to VOUT . VOUT is internally divided from VOUT to the (See Datasheet)", 7 RUN (in) "Regulator Enable Pin. Apply a voltage greater than 0.8V to enable the regulator. Do not float this pin.", 8 VIN (power) "Input Supply Pin. Must be locally bypassed.", 9 EP (power) "Ground. Must be soldered to PCB."

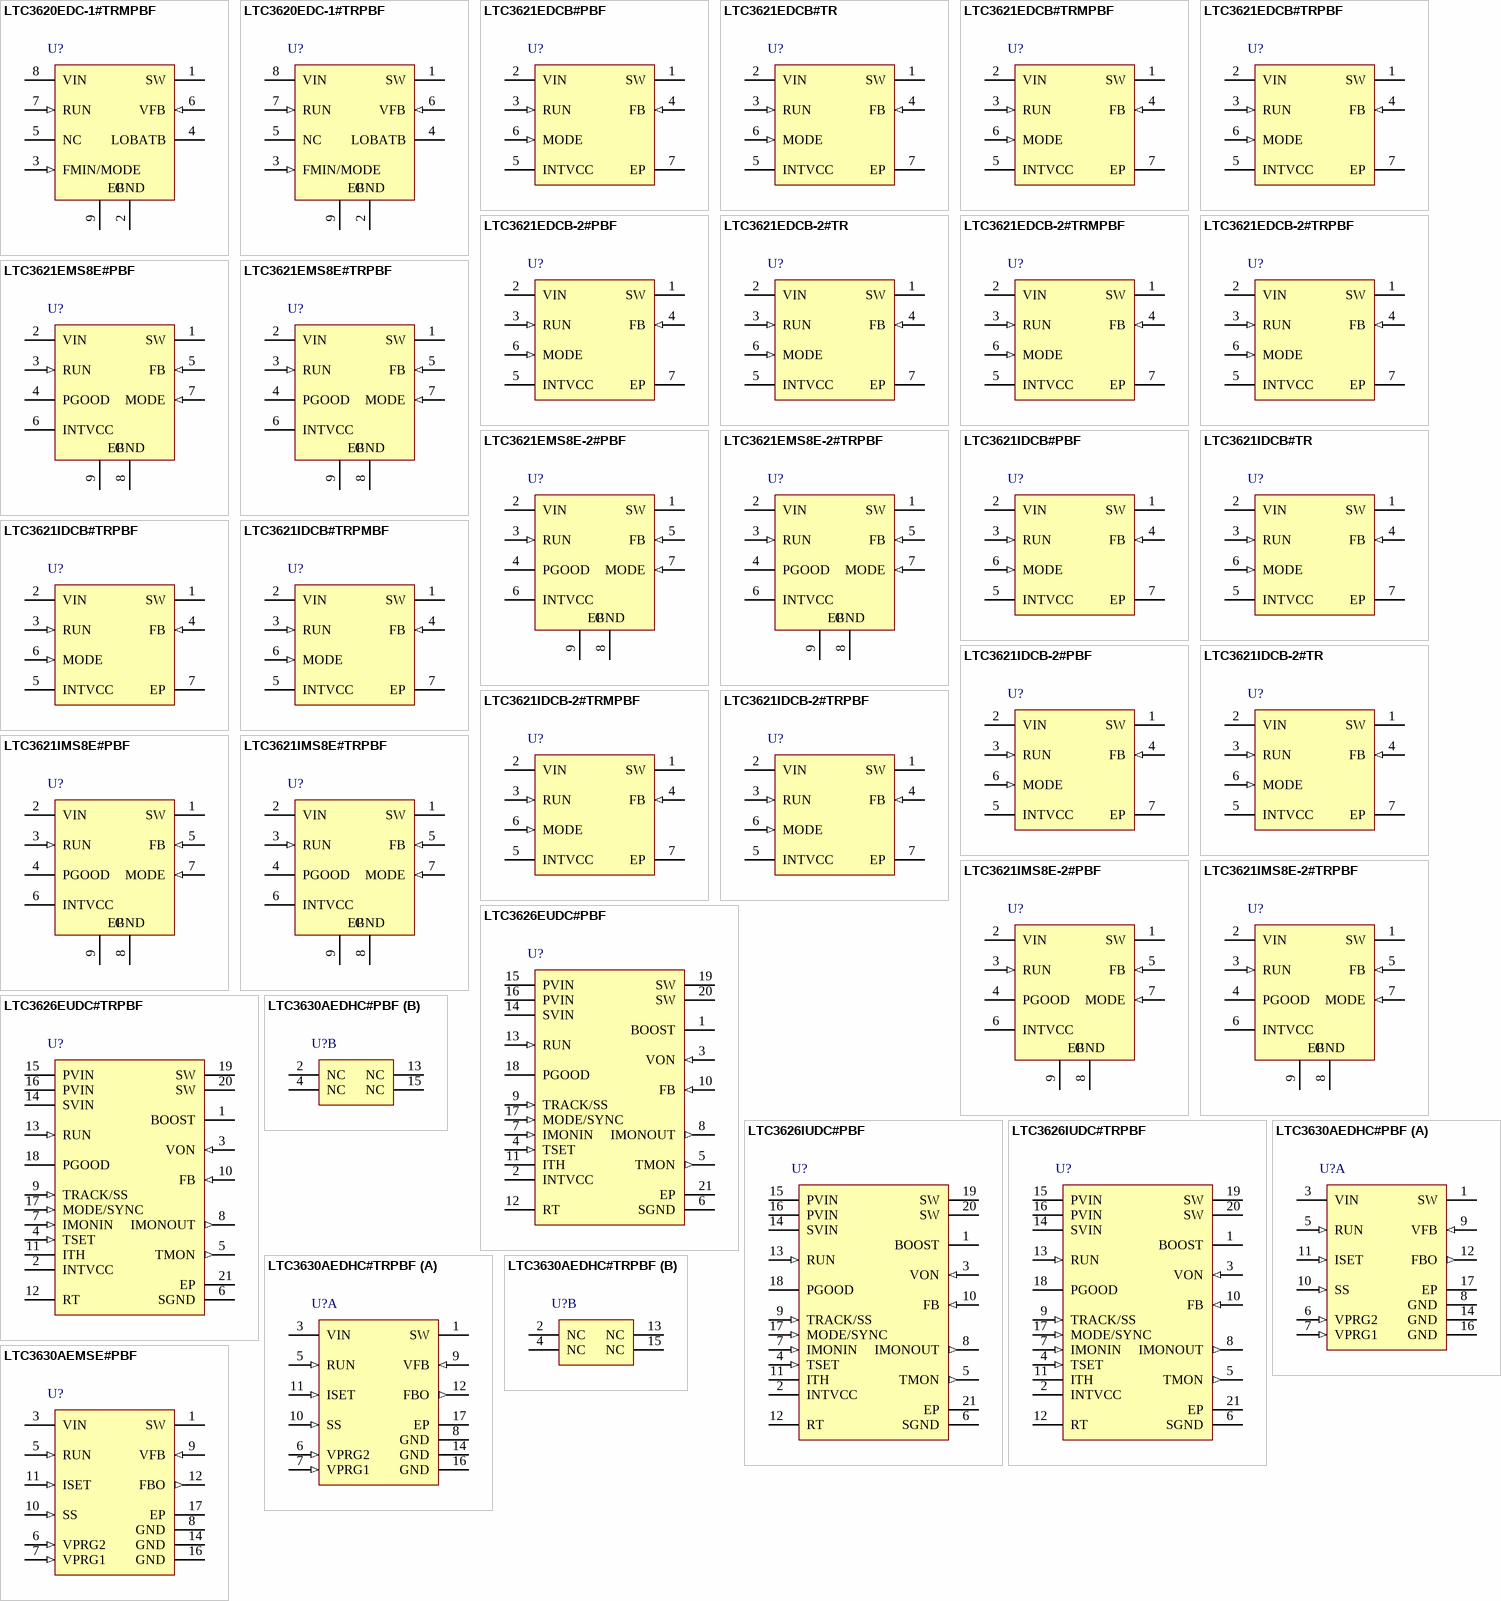
[diagram p41: symbols LTC3620EDC-1#TRMPBF to LTC3630AEMSE#PBF]

## LTC3620EDC-1#TRMPBF
designator U?
Ultralow Power 15 mA Synchronous Step-Down Switching Regulator, 8-pin SON (DC8-8), -40 to 85 degC, Pb-Free, Mini Tape and Reel; Manufacturer: Linear Technology; PartNumber: LTC3620EDC-1#TRMPBF; Number of Outputs: 1; DatasheetVersion: Rev. A; PackageVersion: Rev. A, 04/2009; PackageReference: DC8; PackageDescription: 8-Pin Plastic DFN, Body 2 x 2 mm, Pitch 0.45 mm; Supplier 1: Digi-Key; Supplier Part Number 1: LTC3620EDC-1#TRMPBFTR-ND; Supplier 2: Digi-Key; Supplier Part Number 2: LTC3620EDC-1#TRMPBFCT-ND; Supplier 3: Digi-Key; Supplier Part Number 3: LTC3620EDC-1#TRMPBFDKR-ND; Packing: Mini Tape and Reel; RoHS: TRUE; Mounting Technology: Surface Mount; ComponentLink1Description: Manufacturer URL; ComponentLink1URL: http://www.linear.com/; ComponentLink2Description: Datasheet; ComponentLink2URL: http://cds.linear.com/docs/en/datasheet/3620fa.pdf; ComponentLink3Description: Package Specification; ComponentLink3URL: http://cds.linear.com/docs/en/packaging/DFN_8_05-08-1719.pdf
footprint LT-DC8_V (SON, 8-Leads, Body 2x2mm, Pitch 0.45mm, Thermal Pad 1.37x0.64mm, Recommended)
pins: 1 SW (power) "Switch Node Connection to Inductor. This pin connects to the internal power MOSFET Switches.", 2 GND (power) "Ground Connection for Internal Circuitry and Power Path Return. Tie directly to local ground plane.", 3 FMIN/MODE (in) "Frequency Clamp Select Input. Driving this pin with a 20kHz to 300kHz external clock sets the minimum switching frequency. Pulling this pin low sets the minimum switching frequency to the internally set 50kHz. Pulling this (See Datasheet)", 4 LOBATB (oc) "Low-Battery Status Output. This open drain output pulls low when VIN falls below 3V.", 5 NC "No Connect.", 6 VFB (in) "Regulator Feedback Pin. This pin receives the feedback voltage from the resistive divider across the output. For the LTC3620-1, this pin must be connected directly to VOUT . VOUT is internally divided from VOUT to the (See Datasheet)", 7 RUN (in) "Regulator Enable Pin. Apply a voltage greater than 0.8V to enable the regulator. Do not float this pin.", 8 VIN (power) "Input Supply Pin. Must be locally bypassed.", 9 EP (power) "Ground. Must be soldered to PCB."

## LTC3620EDC-1#TRPBF
designator U?
Ultralow Power 15 mA Synchronous Step-Down Switching Regulator, 8-pin SON (DC8-8), -40 to 85 degC, Pb-Free, Tape and Reel; Manufacturer: Linear Technology; PartNumber: LTC3620EDC-1#TRPBF; Number of Outputs: 1; DatasheetVersion: Rev. A; PackageVersion: Rev. A, 04/2009; PackageReference: DC8; PackageDescription: 8-Pin Plastic DFN, Body 2 x 2 mm, Pitch 0.45 mm; Supplier 1: Digi-Key; Supplier Part Number 1: LTC3620EDC-1#TRPBF-ND; Packing: Tape and Reel; RoHS: TRUE; Mounting Technology: Surface Mount; ComponentLink1Description: Manufacturer URL; ComponentLink1URL: http://www.linear.com/; ComponentLink2Description: Datasheet; ComponentLink2URL: http://cds.linear.com/docs/en/datasheet/3620fa.pdf; ComponentLink3Description: Package Specification; ComponentLink3URL: http://cds.linear.com/docs/en/packaging/DFN_8_05-08-1719.pdf
footprint LT-DC8_V (SON, 8-Leads, Body 2x2mm, Pitch 0.45mm, Thermal Pad 1.37x0.64mm, Recommended)
pins: 1 SW (power) "Switch Node Connection to Inductor. This pin connects to the internal power MOSFET Switches.", 2 GND (power) "Ground Connection for Internal Circuitry and Power Path Return. Tie directly to local ground plane.", 3 FMIN/MODE (in) "Frequency Clamp Select Input. Driving this pin with a 20kHz to 300kHz external clock sets the minimum switching frequency. Pulling this pin low sets the minimum switching frequency to the internally set 50kHz. Pulling this (See Datasheet)", 4 LOBATB (oc) "Low-Battery Status Output. This open drain output pulls low when VIN falls below 3V.", 5 NC "No Connect.", 6 VFB (in) "Regulator Feedback Pin. This pin receives the feedback voltage from the resistive divider across the output. For the LTC3620-1, this pin must be connected directly to VOUT . VOUT is internally divided from VOUT to the (See Datasheet)", 7 RUN (in) "Regulator Enable Pin. Apply a voltage greater than 0.8V to enable the regulator. Do not float this pin.", 8 VIN (power) "Input Supply Pin. Must be locally bypassed.", 9 EP (power) "Ground. Must be soldered to PCB."

## LTC3621EDCB#PBF
designator U?
1 A Synchronous Step-Down Regulator with 3.5 uA Quiescent Current, 6-pin SON (DCB-6), -40 to 125 degC, Pb-Free; Manufacturer: Linear Technology; PartNumber: LTC3621EDCB#PBF; Number of Outputs: 1; PackageVersion: Rev. A, 03/2011; PackageReference: DCB-6; PackageDescription: 6-Pin Plastic DFN, Body 2 x 3 mm, Pitch 0.5 mm; RoHS: TRUE; Mounting Technology: Surface Mount; Code_JEDEC: MO-229; ComponentLink1Description: Manufacturer URL; ComponentLink1URL: http://www.linear.com/; ComponentLink2Description: Datasheet; ComponentLink2URL: http://cds.linear.com/docs/en/datasheet/3621f.pdf; ComponentLink3Description: Package Specification; ComponentLink3URL: http://www.linear.com/docs/en/packaging/(DCB6)%20DFN%2005-08-1715%20Rev%20A.pdf
footprint LT-DCB-6_V (SON, 6-Leads, Body 3x2mm, Pitch 0.5mm, Thermal Pad 1.65x1.35mm)
pins: 1 SW (power) "Switch Node Connection to the Inductor of the Step-Down Regulator.", 2 VIN (power) "Input Voltage of the Step-Down Regulator.", 3 RUN (in) "Logic Controlled RUN Input. Do not leave this pin floating. Logic high activates the step-down regulator.", 4 FB (in) "Feedback Input to the Error Amplifier of the Step-Down Regulator. Connect a resistor divider tap to this pin. The output voltage can be adjusted from 0.6V to VIN by: VOUT = 0.6V x [1 + (R1/R2)]", 5 INTVCC (power) "Low Dropout Regulator. Bypass with at least 1uF to Ground.", 6 MODE (in) "Burst Mode Select of the Step-Down Regulator. Tie MODE to INTVCC for Burst Mode operation with a 400mA peak current clamp, tie MODE to GND for pulse skipping operation, and tie MODE to a voltage between 1V and VINTVCC -1V (See Datasheet)", 7 EP (power) "Ground Backplane for Power and Signal Ground. Must be soldered to PCB ground."

## LTC3621EDCB#TR
designator U?
1 A Synchronous Step-Down Regulator with 3.5 uA Quiescent Current, 6-pin SON (DCB-6), -40 to 125 degC, Tape and Reel; Manufacturer: Linear Technology; PartNumber: LTC3621EDCB#TR; Number of Outputs: 1; PackageVersion: Rev. A, 03/2011; PackageReference: DCB-6; PackageDescription: 6-Pin Plastic DFN, Body 2 x 3 mm, Pitch 0.5 mm; Packing: Tape and Reel; RoHS: FALSE; Mounting Technology: Surface Mount; Code_JEDEC: MO-229; ComponentLink1Description: Manufacturer URL; ComponentLink1URL: http://www.linear.com/; ComponentLink2Description: Datasheet; ComponentLink2URL: http://cds.linear.com/docs/en/datasheet/3621f.pdf; ComponentLink3Description: Package Specification; ComponentLink3URL: http://www.linear.com/docs/en/packaging/(DCB6)%20DFN%2005-08-1715%20Rev%20A.pdf
footprint LT-DCB-6_V (SON, 6-Leads, Body 3x2mm, Pitch 0.5mm, Thermal Pad 1.65x1.35mm)
pins: 1 SW (power) "Switch Node Connection to the Inductor of the Step-Down Regulator.", 2 VIN (power) "Input Voltage of the Step-Down Regulator.", 3 RUN (in) "Logic Controlled RUN Input. Do not leave this pin floating. Logic high activates the step-down regulator.", 4 FB (in) "Feedback Input to the Error Amplifier of the Step-Down Regulator. Connect a resistor divider tap to this pin. The output voltage can be adjusted from 0.6V to VIN by: VOUT = 0.6V x [1 + (R1/R2)]", 5 INTVCC (power) "Low Dropout Regulator. Bypass with at least 1uF to Ground.", 6 MODE (in) "Burst Mode Select of the Step-Down Regulator. Tie MODE to INTVCC for Burst Mode operation with a 400mA peak current clamp, tie MODE to GND for pulse skipping operation, and tie MODE to a voltage between 1V and VINTVCC -1V (See Datasheet)", 7 EP (power) "Ground Backplane for Power and Signal Ground. Must be soldered to PCB ground."